# Altium schematic symbol library SFP_CONNECTORS.SchLib: 2 symbols
Pins are listed as number, name and electrical type; pins without a type are passive.

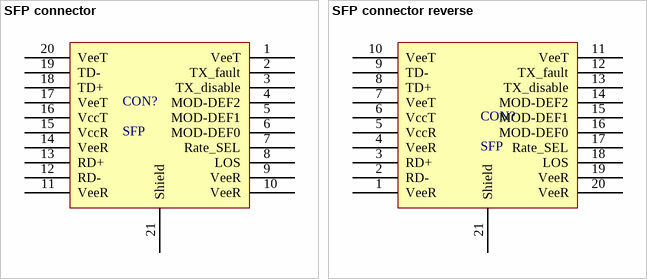
[diagram p0: symbols SFP connector to SFP connector reverse]

## SFP connector
designator CON?, comment SFP
SFP with cage; Implementation: YES; Supplier 1: Farnell; Supplier Part Number 1: 1629987; Datasheet: *; Manifacturer: *; Manifacturer code: *; Value: SFP
footprint SFP (SFP connector without cage)
footprint PCB_SFP_COVER
pins: 1 VeeT, 2 TX_fault, 3 TX_disable, 4 MOD-DEF2, 5 MOD-DEF1, 6 MOD-DEF0, 7 Rate_SEL, 8 LOS, 9 VeeR, 10 VeeR, 11 VeeR, 12 RD-, 13 RD+, 14 VeeR, 15 VccR, 16 VccT, 17 VeeT, 18 TD+, 19 TD-, 20 VeeT, 21 Shield (oc)

## SFP connector reverse
designator CON?, comment SFP
SFP, woutout cage, reverse orientation of SFP module; Implementation: YES; Supplier 1: Farnell; Supplier Part Number 1: 1629987; Datasheet: *; Manifacturer: *; Manifacturer code: *; Value: SFP
footprint SFP (SFP connector without cage)
pins: 1 VeeR, 2 RD-, 3 RD+, 4 VeeR, 5 VccR, 6 VccT, 7 VeeT, 8 TD+, 9 TD-, 10 VeeT, 11 VeeT, 12 TX_fault, 13 TX_disable, 14 MOD-DEF2, 15 MOD-DEF1, 16 MOD-DEF0, 17 Rate_SEL, 18 LOS, 19 VeeR, 20 VeeR, 21 Shield (oc)